# Altium footprint library Altium-RECT.PcbLib: 24 footprints (part 1 of 2)
Each footprint in its own frame and in the unit in brackets; x right, y up, seen from the top. Pads: shape width x height; smd on the part's side, far side on the other; paste and mask are expansions set on the pad; w line width, h text height; cw(c..) or ccw(c..) is an arc to the next point about the centre after c.
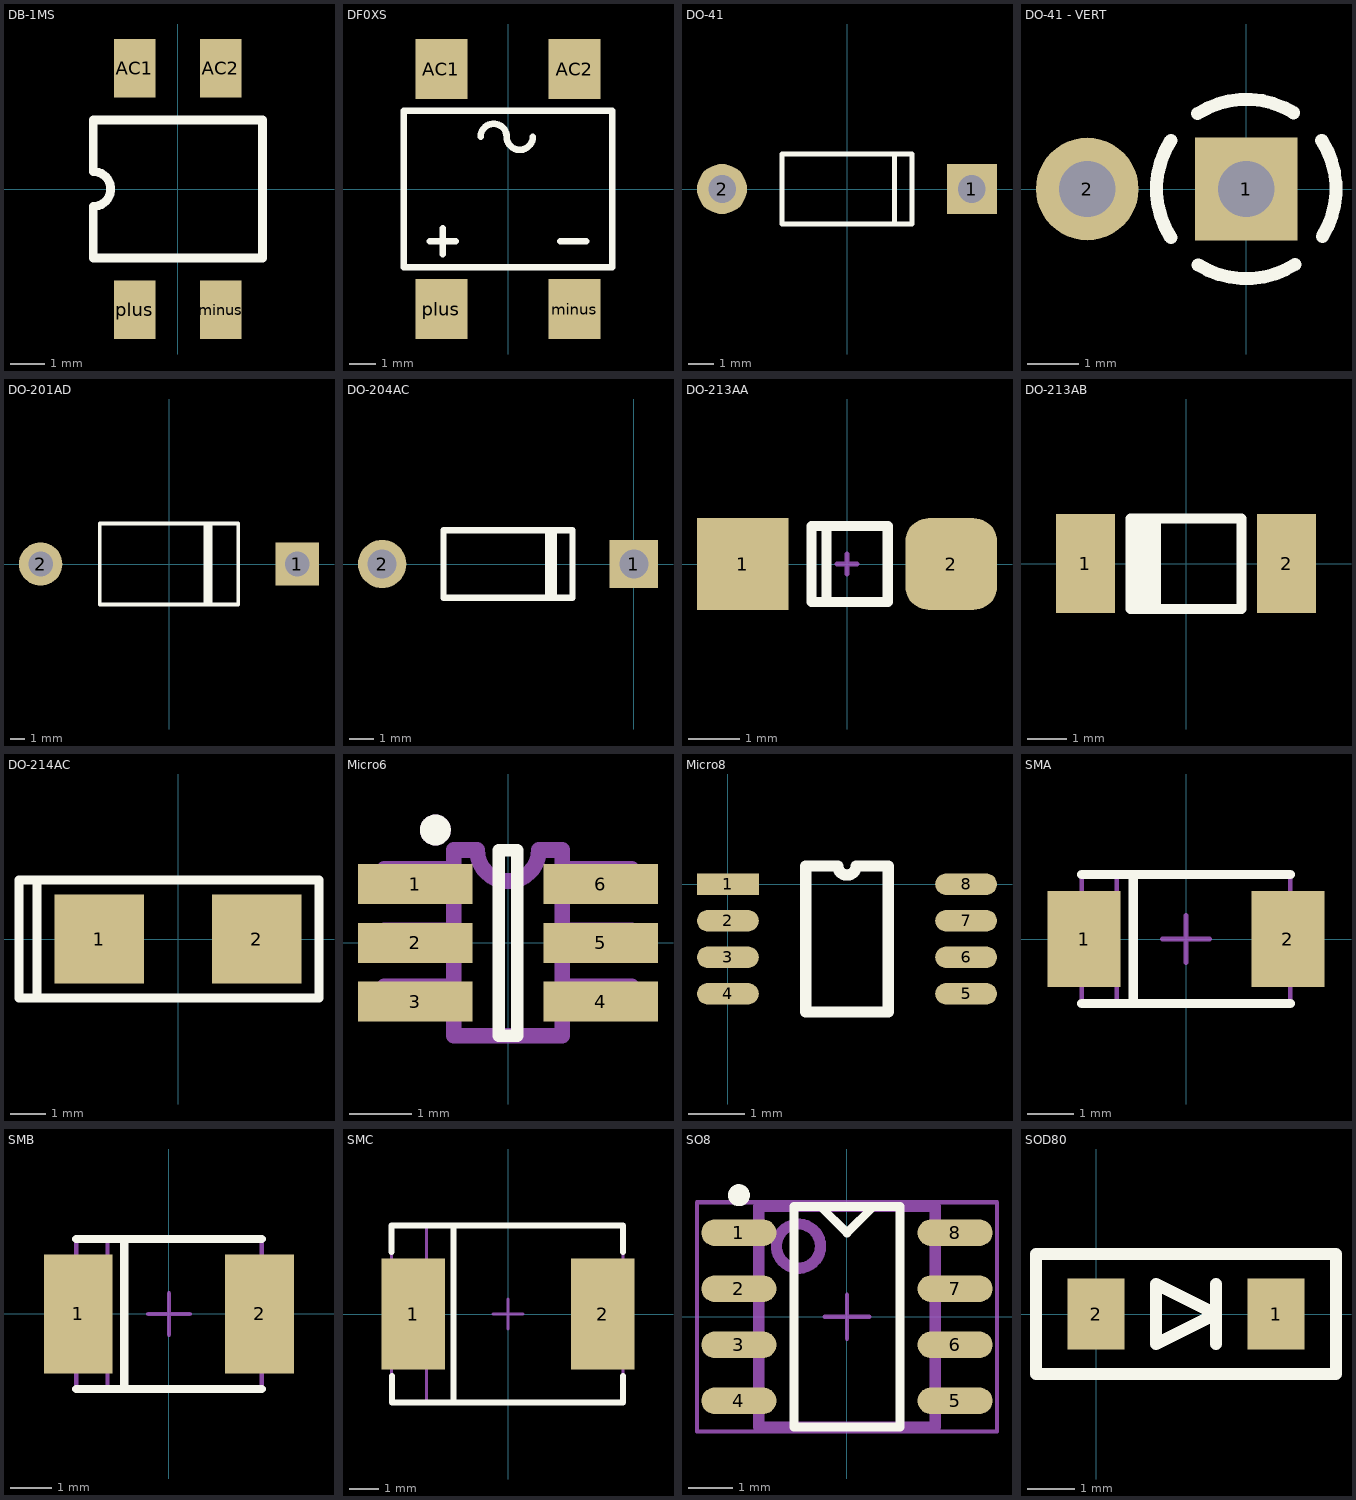
[diagram p0: the footprints below, top view; thin cyan lines are the x and y axes]

## DB-1MS [mm]
height 2.7
pads (4):
  rect 1.2x1.7 smd: AC1(-1.25,3.492) AC2(1.25,3.492) minus(1.25,-3.492) plus(-1.25,-3.492)
Top Overlay:
  lines w0.254: -2.45,-2 2.45,-2 2.45,2 -2.45,2 -2.45,0.508 cw(c-2.45,0) -2.45,-0.508 -2.45,-2
3D body: height 2.7, standoff 0, extent -2.5,-2.1 2.5,2.1

## DF0XS [mm]
height 3.3
pads (4):
  rect 2x2.3 smd: AC1(-2.55,4.6) AC2(2.55,4.6) minus(2.55,-4.6) plus(-2.55,-4.6)
Top Overlay:
  lines w0.254: -3,-2 -2,-2 ; -2.5,-2.5 -2.5,-1.5 ; -1.05,2 cw(c-0.55,2) -0.05,2 ccw(c0.45,2) 0.95,2 ; 2,-2 3,-2 ; -4,-3 -4,3 0,3 4,3 4,-3 -4,-3
3D body: height 3.3, standoff 0, extent -4.127,-3.127 4.127,3.127

## DO-41 [mm]
height 6
pads (2):
  rect 2x2 hole 1.1: 1(5,0)
  round 2 hole 1.1: 2(-5,0)
Top Overlay:
  lines w0.2: 1.9,-1.4 1.9,1.4 ; -2.6,-1.4 2.6,-1.4 2.6,1.4 0,1.4 -2.6,1.4 -2.6,-1.4
3D body: height 5, standoff 4, extent -5.588,-0.508 5.588,0.508
3D body: height 6, standoff 3, extent -2.7,-1.5 2.7,1.5

## DO-41 - VERT [mm]
height 8.2
pads (2):
  rect 2x2 hole 1.1: 1(0,0)
  round 2 hole 1.1: 2(-3.1,0)
Top Overlay:
  lines w0.254: -1.472,-0.946 cw(c0,0) -1.472,0.946 ; -0.946,1.472 cw(c0,0) 0.923,1.487 ; -0.936,-1.478 ccw(c0,0) 0.946,-1.472 ; 1.472,0.946 cw(c0,0) 1.487,-0.923
3D body: height 6.7, standoff 1.5, extent -1.345,-1.35 1.345,1.345

## DO-201AD [mm]
height 8.3
pads (2):
  rect 3x3 hole 1.7: 1(8.89,0)
  round 3 hole 1.7: 2(-8.89,0)
Top Overlay:
  lines w0.254: 2.5,-2.8 2.5,2.8 ; 2.7,-2.8 2.7,2.8 ; 2.9,-2.8 2.9,2.8 ; -4.8,-2.8 -4.8,2.8 4.8,2.8 4.8,-2.8 -4.8,-2.8
3D body: height 8.3, standoff 3, extent -4.927,-2.927 4.927,2.927
3D body: height 6.15, standoff 4.85, extent -9.652,-0.762 9.652,0.762

## DO-204AC [mm]
height 4.7
pads (2):
  rect 2x2 hole 1.2: 1(0,0)
  round 2 hole 1.2: 2(-10.414,0)
Top Overlay:
  lines w0.254: -3.556,-1.397 -3.556,1.397 ; -3.302,-1.397 -3.302,1.397 ; -7.874,-1.397 -2.54,-1.397 -2.54,1.397 -7.874,1.397 -7.874,-1.397
3D body: height 3.85, standoff 2.85, extent -10.922,-0.508 0.508,0.508
3D body: height 4.7, standoff 2, extent -7.873,-1.396 -3.557,1.396
3D body: height 0, standoff 0, extent -3.301,-1.396 -2.541,1.396
3D body: height 0, standoff 0, extent -3.555,-1.396 -3.303,1.396

## DO-213AA [mm] "DO-213-AA; 2 C-Bend Leads; Body 3.7 x 1.7 mm, inc. leads (LxW)"
height 3.7
pads (2):
  rect 1.8x1.8 smd: 1(-2.05,0)
  rrect50% 1.8x1.8 smd: 2(2.05,0)
Top Overlay:
  lines w0.2: -0.4,0.75 -0.4,-0.75 ; -0.4,-0.75 0.8,-0.75 0.8,0.75 -0.15,0.75 -0.7,0.75 -0.7,-0.75 -0.4,-0.75
Mechanical 15:
  lines w0.1: -0.2,0 0.2,0 ; 0,-0.2 0,0.2
3D body: height 0.76, standoff -0.76, extent -1.75,-0.763 1.75,0.763

## DO-213AB [mm]
height 2.5
pads (2):
  rect 1.5x2.5 smd: 1(-2.54,0) 2(2.54,0)
Top Overlay:
  rectangle: -1.397,-1.27 -0.635,1.143
  lines w0.254: -1.397,-1.143 -1.397,1.143 1.397,1.143 1.397,-1.143 -1.397,-1.143
3D body: height 2.49, standoff 0, extent -2.49,-1.248 2.51,1.248

## DO-214AC [mm]
height 2.4
pads (2):
  rect 2.5x2.499 smd: 1(-2.2,0) 2(2.2,0)
Top Overlay:
  lines w0.254: -3.937,-1.651 3.937,-1.651 3.937,1.651 -3.937,1.651 ; -3.937,-1.651 -3.937,1.651 ; -3.937,-1.651 -4.445,-1.651 -4.445,1.651 -3.937,1.651
3D body: height 2.4, standoff 0, extent -2.65,-1.3 2.55,1.3

## Micro6 [mm] "IRLMS1503 footprint"
height 1.45
pads (6):
  rect 1.85x0.65 smd: 1(-1.5,0.95) 2(-1.5,0) 3(-1.5,-0.95) 4(1.5,-0.95) 5(1.5,0) 6(1.5,0.95)
Top Overlay:
  circle w0.25: c-1.175,1.825 r0.125
  lines w0.2: -0.15,-1.5 -0.15,1.5 0.15,1.5 0.15,-1.5 -0.15,-1.5
Mechanical 13:
  circle w0.25: c-1.175,1.825 r0.125
  lines w0.254: -0.875,-1.1 -2,-1.1 -2,-0.7 -0.875,-0.7 ; -0.875,-0.2 -2,-0.2 -2,0.2 -0.875,0.2 ; -0.875,0.8 -2,0.8 -2,1.2 -0.875,1.2 ; 0.875,-1.1 2,-1.1 2,-0.7 0.875,-0.7 ; 0.875,-0.2 2,-0.2 2,0.2 0.875,0.2 ; 0.875,0.8 2,0.8 2,1.2 0.875,1.2 ; -0.875,-1.5 -0.875,1.5 -0.5,1.5 ccw(c0,1.5) 0.5,1.5 0.875,1.5 0.875,-1.5 -0.875,-1.5
  text ".Designator" at -2.625,2.4 h2
3D body: height 1.45, standoff 0.15, extent -0.875,-1.5 0.875,1.5

## Micro8 [mm]
pads (8):
  rect 1.1x0.38 smd: 1(0,0)
  oval 1.1x0.38 smd: 2(0,-0.65) 3(0,-1.3) 4(0,-1.95) 5(4.24,-1.95) 6(4.24,-1.3) 7(4.24,-0.65) 8(4.24,0)
Top Overlay:
  lines w0.2: 1.385,-2.275 1.385,0.325 1.957,0.325 ccw(c2.12,0.325) 2.282,0.325 2.855,0.325 2.855,-2.275 1.385,-2.275
3D body: height 1.11, standoff 0.1, extent 0.608,-2.517 3.608,0.483

## SMA [mil] "http://www.vishay.com/docs/95018/sma.pdf"
height 96.06
pads (2):
  rect 62x82 smd mask+4: 1(-87,0) 2(87,0)
Top Overlay:
  lines w8: -89,-55 89,-55 ; -89,55 89,55 ; -45,-55 -45,55
Mechanical 15:
  lines w4: -59,-55 -59,55 ; -20,0 20,0 ; 0,-20 0,20 ; -89,-55 -89,55 89,55 89,-55 -89,-55
3D body: height 87.4, standoff 0, extent -100,-53.15 98.43,53.15

## SMB [mil] "http://www.vishay.com/docs/95017/smb.pdf"
height 94.49
pads (2):
  rect 66x114 smd mask+4: 1(-87,0) 2(87,0)
Top Overlay:
  lines w8: -89,-72 89,-72 ; -89,72 89,72 ; -43,-72 -43,72
Mechanical 15:
  lines w4: -59,-72 -59,72 ; -20,0 20,0 ; 0,-20 0,20 ; -89,-72 -89,72 89,72 89,-72 -89,-72
3D body: height 84.65, standoff 0, extent -104.33,-69.88 104.33,69.88

## SMC [mil] "http://www.vishay.com/docs/95023/smc.pdf"
height 103.15
pads (2):
  rect 86x150 smd mask+4: 1(-128,0) 2(128,0)
Top Overlay:
  lines w8: -157.48,84 -157.48,120 155.51,120 155.51,84 ; -157.09,-84 -157.09,-120 155.51,-120 155.51,-84 ; -74,-120 -74,120
Mechanical 15:
  lines w4: -110,-120 -110,120 ; -20,0 20,0 ; 0,-20 0,20 ; -157.48,-120 155.51,-120 155.51,120 -157.48,120 -157.48,-120
3D body: height 90.94, standoff 0, extent -157.09,-116.24 155.51,116.24

## SO8 [mm] "SOIC, 8-Leads, Body 4.9x3.9mm, Pitch 1.27mm, IPC High Density"
height 1.75
pads (8):
  oval 1.7x0.6 smd: 1(-2.45,1.905) 2(-2.45,0.635) 3(-2.45,-0.635) 4(-2.45,-1.905) 5(2.45,-1.905) 6(2.45,-0.635) 7(2.45,0.635) 8(2.45,1.905)
Top Overlay:
  circle w0.25: c-2.45,2.755 r0.125
  lines w0.2: 0.6,2.5 0,1.9 ; -0.6,2.5 0,1.9 ; -0.6,2.5 -0.6,2.5 ; 0,1.9 0,1.9 ; -1.2,-2.5 1.2,-2.5 1.2,2.5 -1.2,2.5 -1.2,-2.5
Mechanical 13:
  circle w0.254: c-1.1,1.6 r0.5
  lines w0.254: -2,-2.032 -3.067,-2.032 -3.067,-1.778 -2,-1.778 ; -2,-0.762 -3.067,-0.762 -3.067,-0.508 -2,-0.508 ; -2,0.508 -3.067,0.508 -3.067,0.762 -2,0.762 ; -2,1.778 -3.067,1.778 -3.067,2.032 -2,2.032 ; 2,-2.032 3.067,-2.032 3.067,-1.778 2,-1.778 ; 2,-0.762 3.067,-0.762 3.067,-0.508 2,-0.508 ; 2,0.508 3.067,0.508 3.067,0.762 2,0.762 ; 2,1.778 3.067,1.778 3.067,2.032 2,2.032 ; -2,-2.5 2,-2.5 2,2.5 -2,2.5 -2,-2.5
  text ".Designator" at -3.35,3.125 h2
Mechanical 15:
  lines w0.1: -0.5,0 0.5,0 ; 0,-0.5 0,0.5 ; -3.4,-2.6 3.4,-2.6 3.4,2.6 -3.4,2.6 -3.4,-2.6
3D body: height 1.53, standoff 0, extent -3,-2.45 3,2.45

## SOD80 [mm]
height 1.6
pads (2):
  rect 1.2x1.5 smd: 1(3.81,0) 2(0,0)
Top Overlay:
  lines w0.254: 2.54,-0.635 2.54,0.635 ; -1.27,-1.27 -1.27,1.27 5.08,1.27 5.08,-1.27 -1.27,-1.27 ; 1.27,-0.635 1.27,0.635 2.54,0 1.27,-0.635
3D body: height 1.6, standoff 0, extent 0,-0.762 3.81,0.762